# Altium footprint library Inductors.PcbLib: 20 footprints (part 2 of 2)
Each footprint in its own frame and in the unit in brackets; x right, y up, seen from the top. Pads: shape width x height; smd on the part's side, far side on the other; paste and mask are expansions set on the pad; w line width, h text height; cw(c..) or ccw(c..) is an arc to the next point about the centre after c.
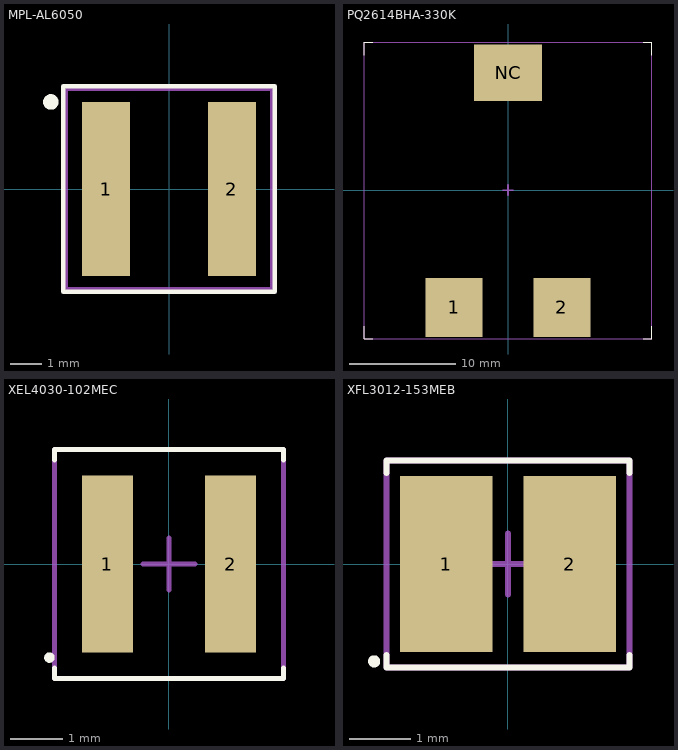
[diagram p1: the footprints below, top view; thin cyan lines are the x and y axes]

## MPL-AL6050 [mm] "Low-Profile Molded Inductor"
height 4.8
pads (2):
  rect 1.55x5.6 smd: 1(-2.025,0) 2(2.025,0)
Top Overlay:
  circle w0.3: c-3.8,2.8 r0.1
  lines w0.15: -3.4,-3.3 3.4,-3.3 3.4,3.3 -3.4,3.3 -3.4,-3.3
Mechanical 13:
  lines w0.1: -3.3,-3.2 3.3,-3.2 3.3,3.2 -3.3,3.2 -3.3,-3.2
3D body "MPL-AL6050-4R7.STEP": height 4.8, standoff 0, extent -3.2,-3.3 3.2,3.3

## PQ2614BHA-330K [mm]
pads (3):
  rect 5.33x5.59 smd: 1(-5.075,-11.037) 2(5.075,-11.037)
  rect 6.35x5.28 smd: NC(0,11.038)
Top Overlay:
  lines w0.1: -13.5,-12.8 -13.5,-14 -12.7,-14 ; -13.5,12.7 -13.5,13.9 -12.7,13.9 ; 12.7,-14 13.5,-14 13.5,-12.8 ; 12.7,13.9 13.5,13.9 13.5,12.7
Mechanical 15:
  lines w0.1: -13.5,-14 13.5,-14 13.5,13.9 -13.5,13.9 -13.5,-14
  lines w0.15: -0.5,0 0.5,0 ; 0,-0.5 0,0.5
3D body "PQ2614BHA.stp": height 15, standoff -0.1, extent -13.4,-13.45 13.4,13.725

## XEL4030-102MEC [mm]
pads (2):
  rect 0.98x3.4 smd mask+0.05: 1(-1.185,0) 2(1.185,0)
Top Overlay:
  circle w0.1: c-2.3,-1.8 r0.05
  lines w0.1: -2.2,-2 -2.2,-2.2 2.2,-2.2 2.2,-2 ; -2.2,2 -2.2,2.2 2.2,2.2 2.2,2
Mechanical 15:
  lines w0.1: -0.5,0 0.5,0 ; 0,-0.5 0,0.5 ; -2.2,-2.2 -2.2,2.2 2.2,2.2 2.2,-2.2 -2.2,-2.2
3D body "Coilcraft-XEL4030-102.step": height 3, standoff -0.1, extent -2.15,-2.15 2.15,2.15

## XFL3012-153MEB [mm]
pads (2):
  rect 1.524x2.9 smd: 1(-1.015,0) 2(1.015,0)
Top Overlay:
  circle w0.1: c-2.2,-1.6 r0.05
  lines w0.1: -2,-1.5 -2,-1.7 2,-1.7 2,-1.5 ; -2,1.5 -2,1.7 2,1.7 2,1.5
Mechanical 15:
  lines w0.1: -0.5,0 0.5,0 ; 0,-0.5 0,0.5 ; -2,-1.7 2,-1.7 2,1.7 -2,1.7 -2,-1.7
3D body "Coilcraft-XFL3012.step": height 1.3, standoff 0, extent -1.6,-1.6 1.6,1.6